# EAGLE library part TPS79301 (library NewSDR)
Texas Instruments Ultralow-Noise, High PSRR, Fast RF 200 mA LDO Linear Regulator - Adjustable 1.22-5.5V
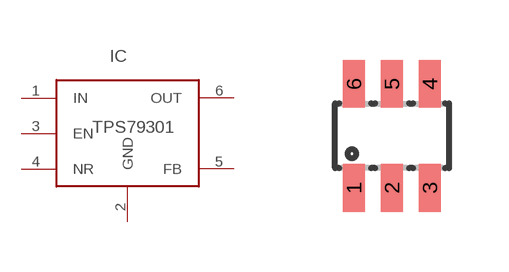
[diagram p17: symbol with the pads of SOT23-6L; footprint SOT23-6L]

Designator prefix IC

## TPS79301DBV  [SOT23-6L]
1  IN  in
2  GND  in
3  EN  in
4  NR  pas
5  FB  pas
6  OUT  pas

## Footprint SOT23-6L (pad centres in mm)
Small Outline Transistor
smd 0.55 x 1.2: 1 -0.95,-1.3; 2 0,-1.3; 3 0.95,-1.3; 4 0.95,1.3; 5 0,1.3; 6 -0.95,1.3